# Altium schematic symbol library MOSFET,P Ch,40V,50A.Schlib: 1 symbol
Pins are listed as number, name and electrical type; pins without a type are passive.

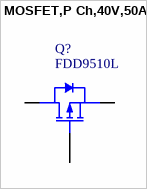
[diagram p0: symbol MOSFET,P Ch,40V,50A]

## MOSFET,P Ch,40V,50A
designator Q?, comment FDD9510L
MOSFET P-CH 40V 50A DPAK
pins: 1 G, 3 S, 4 D